# Altium schematic symbol library axsem_switches_v1-3.SCHLIB: 8 symbols
Pins are listed as number, name and electrical type; pins without a type are passive.

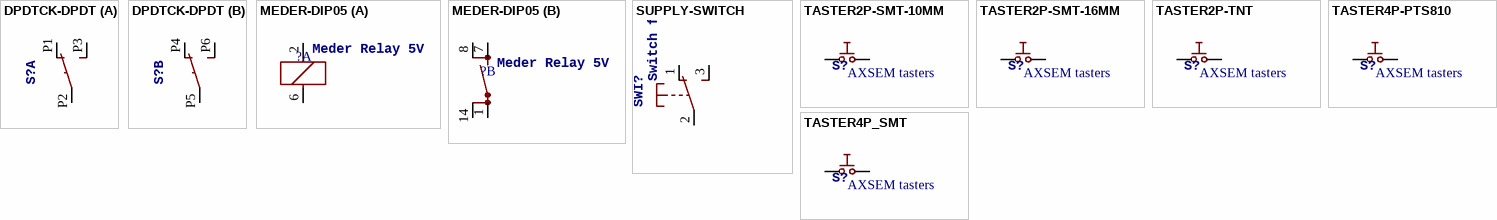
[diagram p0: symbols DPDTCK-DPDT to TASTER4P_SMT]

## DPDTCK-DPDT
designator S?
footprint JS202011SCQN
part A pins: P1 O, P2 P, P3 S
part B pins: P4 O, P5 P, P6 S

## MEDER-DIP05
designator ?, comment Meder Relay 5V
footprint MEDER-DIP05
part A pins: 2 1, 6 2
part B pins: 1 P, 7 S, 8 S@1, 14 P@1

## SUPPLY-SWITCH
designator SWI?, comment Switch for power supply on DVK-2 main board E-switch type 400 MSP-1 R6 (BLK) M6 QE
footprint 400MSP1R6M6QE
pins: 1 O, 2 P, 3 S

## TASTER2P-SMT-10MM
designator S?, comment AXSEM tasters
footprint TASTER_SMALLER_SMD
pins: P1 1, P2 2

## TASTER2P-SMT-16MM
designator S?, comment AXSEM tasters
footprint TASTER_SMALL_SMD
pins: P1 1, P2 2

## TASTER2P-TNT
designator S?, comment AXSEM tasters
footprint TASTER_SMALL
pins: P$1 1, P$2 2

## TASTER4P-PTS810
designator S?, comment AXSEM tasters
footprint TASTER_SMALL_SMD_4PAD
pins: P1 1, P3 2

## TASTER4P_SMT
designator S?, comment AXSEM tasters
footprint TASTER
pins: 1@1 1, 2@1 2